# EAGLE library part ADP5301ACBZ-4-R7 (library ADP5301ACBZ-4-R7)
Switching Voltage Regulators ULP buck 3.3V w/o OD 2.8ms Source: Datasheet
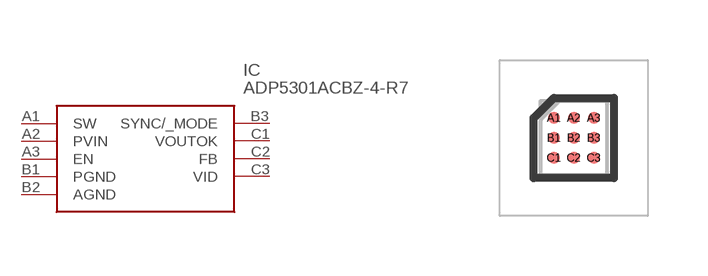
[diagram p0: symbol with the pads of BGA9C50P3X3_165X187X66; footprint BGA9C50P3X3_165X187X66]

Designator prefix IC

## ADP5301ACBZ-4-R7 (Description: Switching Voltage Regulators ULP buck 3.3V w/o OD 2.8ms; Height: 0.66mm; Manufacturer_Name: Analog Devices; Manufacturer_Part_Number: ADP5301ACBZ-4-R7; Mouser_Part_Number: 584-ADP5301ACBZ-4-R7; Mouser_Price-Stock: https://www.mouser.co.uk/ProductDetail/Analog-Devices/ADP5301ACBZ-4-R7?qs=P1JMDcb91o5nnuK7yeEdIw%3D%3D)  [BGA9C50P3X3_165X187X66]
A1  SW
A2  PVIN
A3  EN
B1  PGND
B2  AGND
B3  SYNC/_MODE
C1  VOUTOK
C2  FB
C3  VID

## Footprint BGA9C50P3X3_165X187X66 (pad centres in mm)
CB-9-6
smd 0.306 x 0.306: A1 -0.5,0.5; A2 0,0.5; A3 0.5,0.5; B1 -0.5,0; B2 0,0; B3 0.5,0; C1 -0.5,-0.5; C2 0,-0.5; C3 0.5,-0.5